# EAGLE library part CD74AC244 (library CD74AC244)
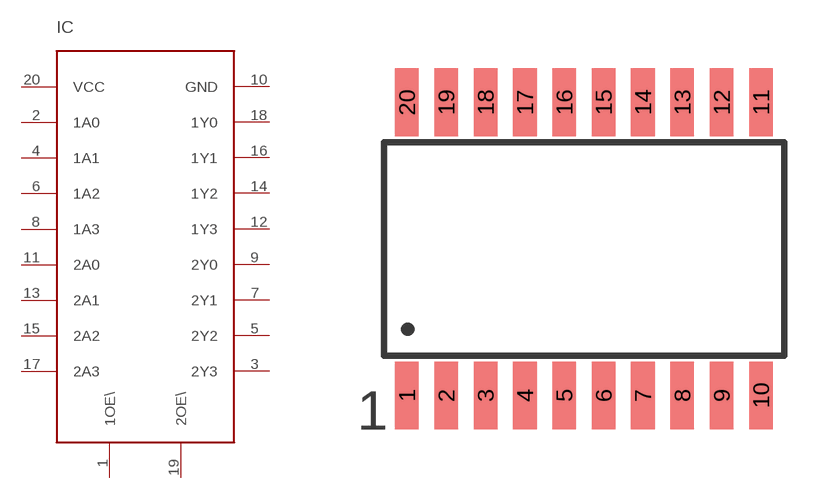
[diagram p0: symbol with the pads of SO-20DW; footprint SO-20DW]

Designator prefix IC

## CD74AC244  [SO-20DW]
1  1OE\  in
2  1A0  in
3  2Y3  out
4  1A1  in
5  2Y2  out
6  1A2  in
7  2Y1  out
8  1A3  in
9  2Y0  out
10  GND  pwr
11  2A0  in
12  1Y3  out
13  2A1  in
14  1Y2  out
15  2A2  in
16  1Y1  out
17  2A3  in
18  1Y0  out
19  2OE\  in
20  VCC  pwr

## Footprint SO-20DW (pad centres in mm)
Small Outline Integrated Circuit wide
smd 0.762 x 2.184: 1 -5.715,-4.727; 2 -4.445,-4.727; 3 -3.175,-4.727; 4 -1.905,-4.727; 5 -0.635,-4.727; 6 0.635,-4.727; 7 1.905,-4.727; 8 3.175,-4.727; 9 4.445,-4.727; 10 5.715,-4.727; 11 5.715,4.727; 12 4.445,4.727; 13 3.175,4.727; 14 1.905,4.727; 15 0.635,4.727; 16 -0.635,4.727; 17 -1.905,4.727; 18 -3.175,4.727; 19 -4.445,4.727; 20 -5.715,4.727